# Altium footprint library Alimentation.PcbLib: 1 footprints
Each footprint in its own frame and in the unit in brackets; x right, y up, seen from the top. Pads: shape width x height; smd on the part's side, far side on the other; paste and mask are expansions set on the pad; w line width, h text height; cw(c..) or ccw(c..) is an arc to the next point about the centre after c.
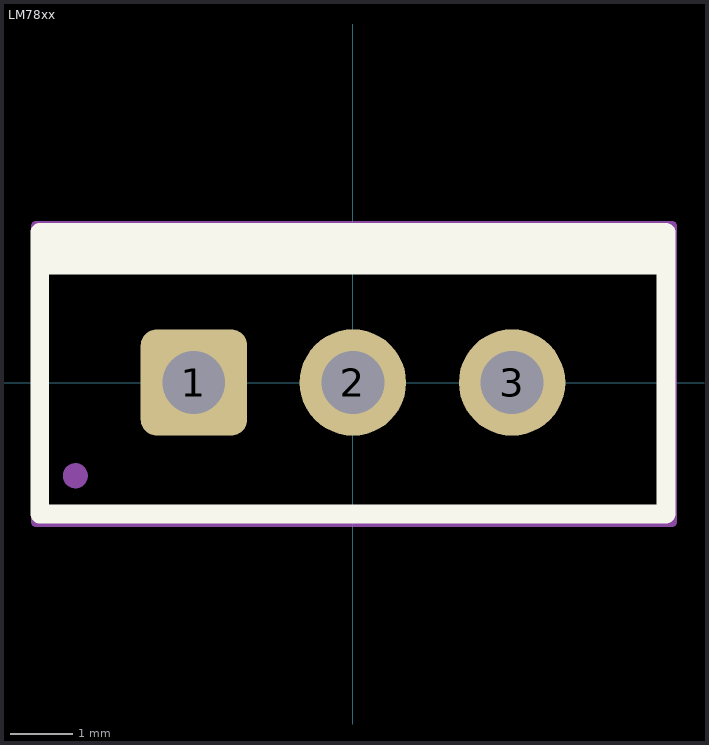
[diagram p0: the footprint, top view; thin cyan lines are the x and y axes]

## LM78xx [mm]
pads (3):
  rrect30% 1.7x1.7 hole 1: 1(-2.54,0)
  round 1.7 hole 1: 2(0,0) 3(2.54,0)
Top Overlay:
  lines w0.3: -5,-2.1 5,-2.1 5,2.4 -5,2.4 -5,-2.1
  lines w0.6: -4.8,2.025 4.8,2.025
Mechanical 13:
  circle w0.2: c-4.433,-1.488 r0.1
  lines w0.1: -4.936,-2.101 -4.936,2.407 4.97,2.407 4.97,-2.101 -4.936,-2.101
  lines w0.5: -4.733,2.162 4.767,2.162
Mechanical 15:
  lines w0.1: -0.635,0 0.635,0 ; 0,-0.635 0,0.635
  lines w0.15: -5.063,-2.228 -5.063,2.5 5.097,2.5 5.097,-2.228 -5.063,-2.228
Mechanical 17:
  text ".Designator" at -0.4,-0.2 h1.5
3D body "User Library-TO-220-1.STEP": height 18.8, standoff -9.98, extent -4.933,-2.093 4.967,2.407